# EAGLE library part MCP23008 (library GadgetFactory_v1)
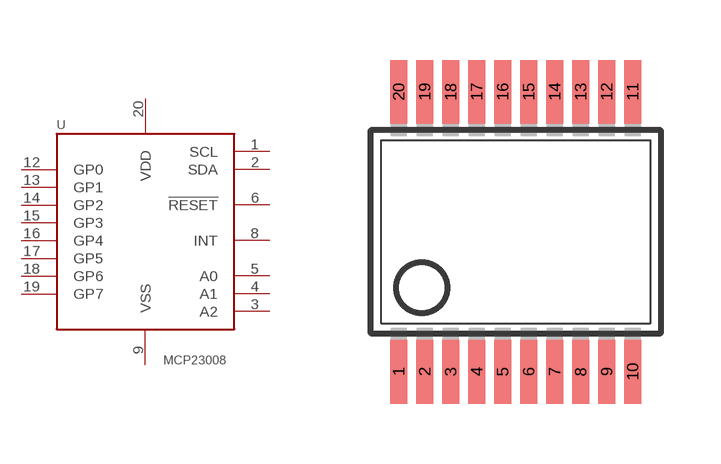
[diagram p43: symbol with the pads of SSOP20; footprint SSOP20]

Designator prefix U

## MCP23008SS  [SSOP20]
1  SCL  in
2  SDA
3  A2  in
4  A1  in
5  A0  in
6  !RESET  in
8  INT  out
9  VSS  pas
12  GP0
13  GP1
14  GP2
15  GP3
16  GP4
17  GP5
18  GP6
19  GP7
20  VDD  pwr

## Footprint SSOP20 (pad centres in mm)
Small Shrink Outline Package
smd 0.42 x 1.6: 1 -2.925,-3.502; 2 -2.275,-3.502; 3 -1.625,-3.502; 4 -0.975,-3.502; 5 -0.325,-3.502; 6 0.325,-3.502; 7 0.975,-3.502; 8 1.625,-3.502; 9 2.275,-3.502; 10 2.925,-3.502; 11 2.925,3.502; 12 2.275,3.502; 13 1.625,3.502; 14 0.975,3.502; 15 0.325,3.502; 16 -0.325,3.502; 17 -0.975,3.502; 18 -1.625,3.502; 19 -2.275,3.502; 20 -2.925,3.502